# EAGLE library part NRF24L01_NRF24L01 (library Connections)
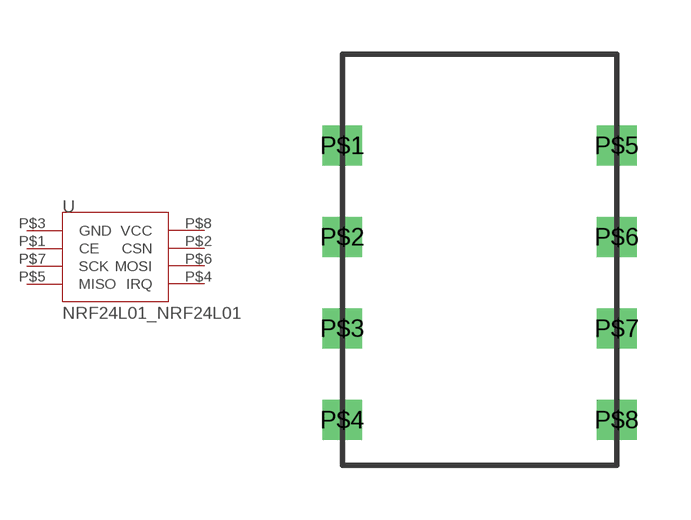
[diagram p3: symbol with the pads of NRF24L01_NRF24L01; footprint NRF24L01_NRF24L01]

Designator prefix -

## NRF24L01_NRF24L01  [NRF24L01_NRF24L01]
P$1  CE
P$2  CSN
P$3  GND
P$4  IRQ
P$5  MISO
P$6  MOSI
P$7  SCK
P$8  VCC

## Footprint NRF24L01_NRF24L01 (pad centres in mm)
drill 0.6 square: P$1 -5.08,1.27; P$2 -5.08,-1.27; P$3 -5.08,-3.81; P$4 -5.08,-6.35; P$5 2.54,1.27; P$6 2.54,-1.27; P$7 2.54,-3.81; P$8 2.54,-6.35